# Altium schematic symbol library TJA1050T_CM_118 v1.SCHLIB: 1 symbol
Pins are listed as number, name and electrical type; pins without a type are passive.

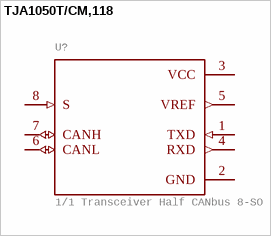
[diagram p0: symbol TJA1050T/CM,118]

## TJA1050T/CM,118
designator U?, comment 1/1 Transceiver Half CANbus 8-SO
MANUFACTURER: NXP USA; GateName_1: G$1; SymbolName_1: TJA1050T/CM,118; LibraryName: TJA1050T_CM_118 v1; DeviceSetName: TJA1050T/CM,118; Package: SOIC127P600X175-8N; MAXIMUM_PACKAGE_HEIGHT: 1.75 mm; PARTREV: 4; STANDARD: IPC 7351B
footprint SOIC127P600X175-8N
pins: 1 TXD (in), 2 GND (power), 3 VCC (power), 4 RXD (out), 5 VREF (out), 6 CANL (io), 7 CANH (io), 8 S (in)